# Altium schematic symbol library Pulse.SchLib: 3 symbols
Pins are listed as number, name and electrical type; pins without a type are passive.

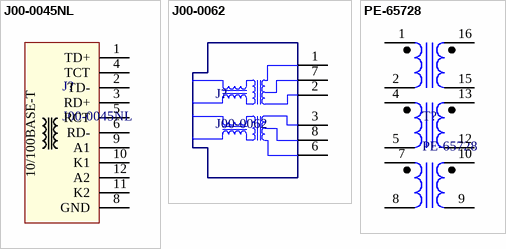
[diagram p0: symbols J00-0045NL to PE-65728]

## J00-0045NL
designator J?
footprint J00-0045NL
pins: 1 TD+, 2 TD-, 3 RD+, 4 TCT, 5 RCT, 6 RD-, 8 GND, 9 A1, 10 K1, 11 K2, 12 A2
text: 10/100BASE-T

## J00-0062
designator J?
10BASE-T Jack with Magnetics
pins: 1, 2, 3, 6, 7, 8

## PE-65728
designator T?
1:1
pins: 1, 2, 4, 5, 7, 8, 9, 10, 12, 13, 15, 16